# EAGLE library part MAX412CPA (library OMAT_IC)
OP AMP
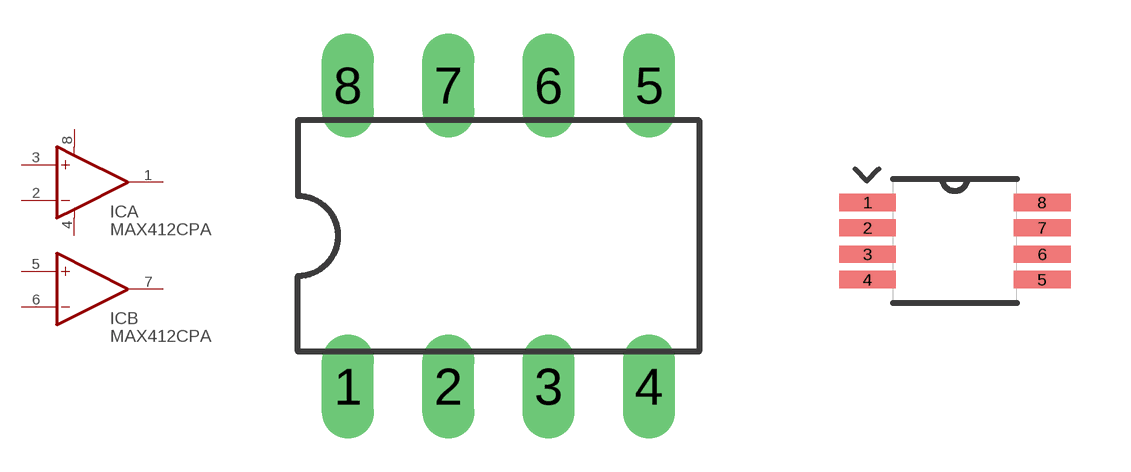
[diagram p10: symbol with the pads of DIL08; footprints DIL08, SOP65P490X110-8N]

Designator prefix IC; gates A=OPUB B=OP

## MAX412CPADIP (MPN: MAX412CPA; OC_FARNELL: unknown; OC_NEWARK: 99K3347)  [DIL08]
1  A:OUT  out
2  A:-IN  in
3  A:+IN  in
4  A:V-  pwr
5  B:+IN  in
6  B:-IN  in
7  B:OUT  out
8  A:V+  pwr

## MAX412CPAMSOP  [SOP65P490X110-8N]
Pads as for DIL08

## Footprint DIL08 (pad centres in mm)
Dual In Line Package
drill 0.813 long: 1 -3.81,-3.81; 2 -1.27,-3.81; 3 1.27,-3.81; 4 3.81,-3.81; 5 3.81,3.81; 6 1.27,3.81; 7 -1.27,3.81; 8 -3.81,3.81

## Footprint SOP65P490X110-8N (pad centres in mm)
smd 1.422 x 0.432: 1 -2.184,0.965; 2 -2.184,0.33; 3 -2.184,-0.33; 4 -2.184,-0.965; 5 2.184,-0.965; 6 2.184,-0.33; 7 2.184,0.33; 8 2.184,0.965